# EAGLE library part 12XFFC (library NU-Smarticle-v1)
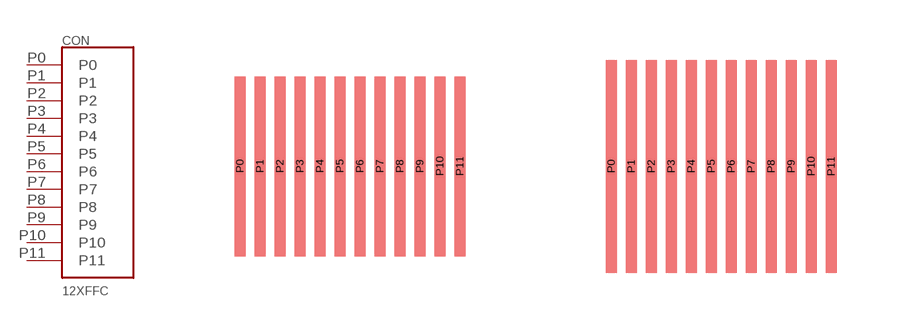
[diagram p5: symbol with the pads of 15166-0117; footprints 15166-0117, 15166-0117_XTEND]

Designator prefix CON

## 12XFFC  [15166-0117]
P0  P0
P1  P1
P2  P2
P3  P3
P4  P4
P5  P5
P6  P6
P7  P7
P8  P8
P9  P9
P10  P10
P11  P11

## 12XFFCEXTEND  [15166-0117_XTEND]
Pads as for 15166-0117

## Footprint 15166-0117 (pad centres in mm)
smd 0.279 x 4.5: P0 0,2; P1 0.5,2; P2 1,2; P3 1.5,2; P4 2,2; P5 2.5,2; P6 3,2; P7 3.5,2; P8 4,2; P9 4.5,2; P10 5,2; P11 5.5,2

## Footprint 15166-0117_XTEND (pad centres in mm)
smd 0.279 x 5.334: P0 0,2; P1 0.5,2; P2 1,2; P3 1.5,2; P4 2,2; P5 2.5,2; P6 3,2; P7 3.5,2; P8 4,2; P9 4.5,2; P10 5,2; P11 5.5,2